# EAGLE library part LAN8720 (library microbuilder)
LAN8720A 10/100 Ethernet PHY Mouser: 886-LAN8720AI-CP
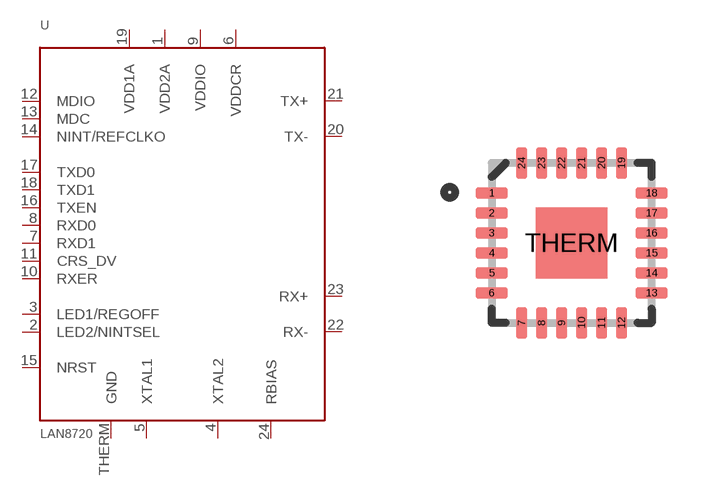
[diagram p77: symbol with the pads of QFN24_4MM; footprint QFN24_4MM]

Designator prefix U

## LAN8720  [QFN24_4MM]
1  VDD2A
2  LED2/NINTSEL
3  LED1/REGOFF
4  XTAL2
5  XTAL1
6  VDDCR
7  RXD1
8  RXD0
9  VDDIO
10  RXER
11  CRS_DV
12  MDIO
13  MDC
14  NINT/REFCLKO
15  NRST
16  TXEN
17  TXD0
18  TXD1
19  VDD1A
20  TX-
21  TX+
22  RX-
23  RX+
24  RBIAS
THERM  GND

## Footprint QFN24_4MM (pad centres in mm)
smd 0.8 x 0.28: 1 -2,1.25; 2 -2,0.75; 3 -2,0.25; 4 -2,-0.25; 5 -2,-0.75; 6 -2,-1.25; 13 2,-1.25; 14 2,-0.75; 15 2,-0.25; 16 2,0.25; 17 2,0.75; 18 2,1.25
smd 0.28 x 0.8: 7 -1.25,-2; 8 -0.75,-2; 9 -0.25,-2; 10 0.25,-2; 11 0.75,-2; 12 1.25,-2; 19 1.25,2; 20 0.75,2; 21 0.25,2; 22 -0.25,2; 23 -0.75,2; 24 -1.25,2
smd 1.778 x 1.778: THERM 0,0